# EAGLE library part STM32F411CEU7 (library tecsmith_stm32)
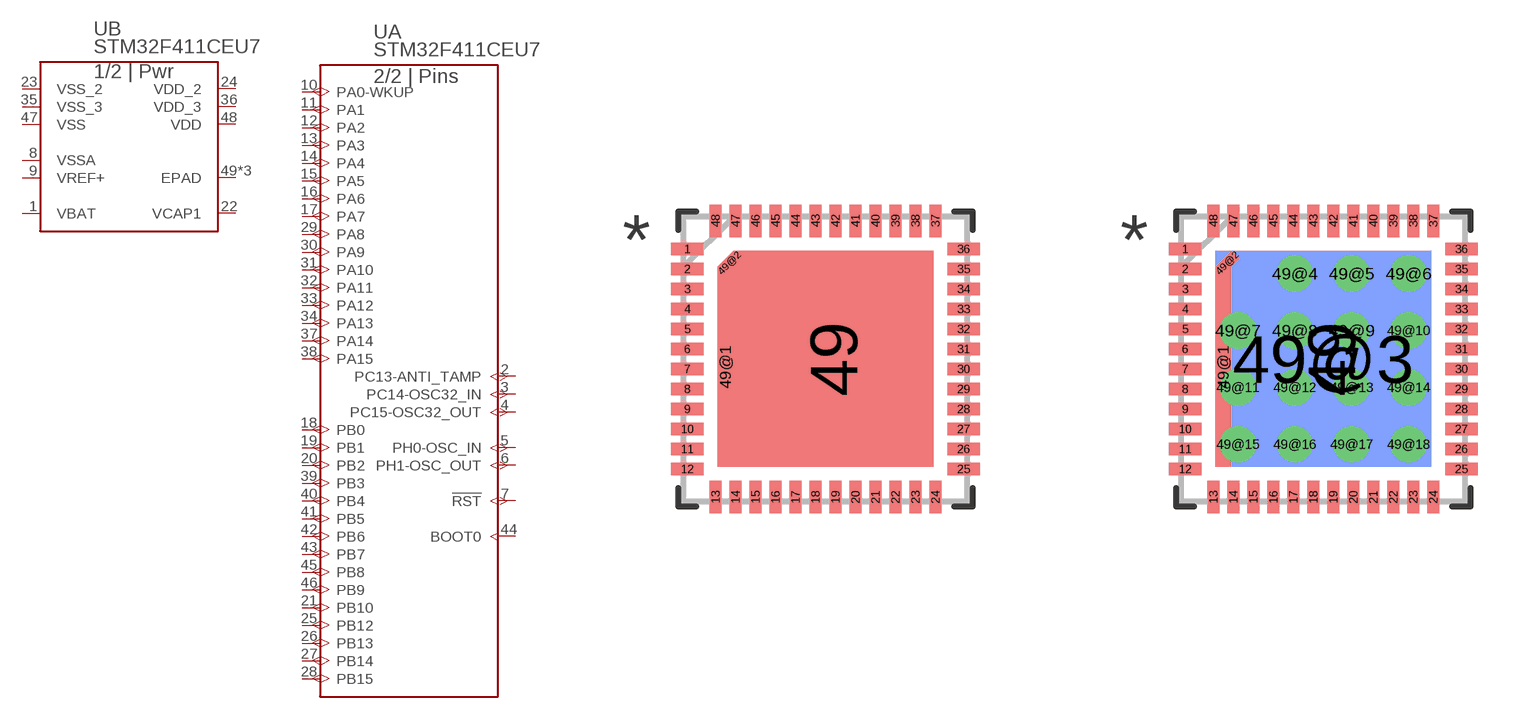
[diagram p1: symbol with the pads of UFQFPN-48; footprints UFQFPN-48, UFQFPN-48-THERM]

Designator prefix U; gates A=STM32F4XXC3_1 B=STM32F4XXC3

## STM32F411CEU7 (MANUFACTURER_PART_NUMBER: STM32F411CEU7; MFR_NAME: STMicroelectronics)  [UFQFPN-48]
1  B:VBAT  pwr
2  A:PC13-ANTI_TAMP
3  A:PC14-OSC32_IN
4  A:PC15-OSC32_OUT
5  A:PH0-OSC_IN
6  A:PH1-OSC_OUT
7  A:!RST
8  B:VSSA  pwr
9  B:VREF+  pwr
10  A:PA0-WKUP
11  A:PA1
12  A:PA2
13  A:PA3
14  A:PA4
15  A:PA5
16  A:PA6
17  A:PA7
18  A:PB0
19  A:PB1
20  A:PB2
21  A:PB10
22  B:VCAP1  pwr
23  B:VSS_2  pwr
24  B:VDD_2  pwr
25  A:PB12
26  A:PB13
27  A:PB14
28  A:PB15
29  A:PA8
30  A:PA9
31  A:PA10
32  A:PA11
33  A:PA12
34  A:PA13
35  B:VSS_3  pwr
36  B:VDD_3  pwr
37  A:PA14
38  A:PA15
39  A:PB3
40  A:PB4
41  A:PB5
42  A:PB6
43  A:PB7
44  A:BOOT0  in
45  A:PB8
46  A:PB9
47  B:VSS  pwr
48  B:VDD  pwr
49  B:EPAD  pas
49@1  B:EPAD  pas
49@2  B:EPAD  pas

## STM32F411CEU7THERM  [UFQFPN-48-THERM]
1  B:VBAT  pwr
2  A:PC13-ANTI_TAMP
3  A:PC14-OSC32_IN
4  A:PC15-OSC32_OUT
5  A:PH0-OSC_IN
6  A:PH1-OSC_OUT
7  A:!RST
8  B:VSSA  pwr
9  B:VREF+  pwr
10  A:PA0-WKUP
11  A:PA1
12  A:PA2
13  A:PA3
14  A:PA4
15  A:PA5
16  A:PA6
17  A:PA7
18  A:PB0
19  A:PB1
20  A:PB2
21  A:PB10
22  B:VCAP1  pwr
23  B:VSS_2  pwr
24  B:VDD_2  pwr
25  A:PB12
26  A:PB13
27  A:PB14
28  A:PB15
29  A:PA8
30  A:PA9
31  A:PA10
32  A:PA11
33  A:PA12
34  A:PA13
35  B:VSS_3  pwr
36  B:VDD_3  pwr
37  A:PA14
38  A:PA15
39  A:PB3
40  A:PB4
41  A:PB5
42  A:PB6
43  A:PB7
44  A:BOOT0  in
45  A:PB8
46  A:PB9
47  B:VSS  pwr
48  B:VDD  pwr
49  B:EPAD  pas
49@1  B:EPAD  pas
49@2  B:EPAD  pas
49@3  B:EPAD  pas
49@4  B:EPAD  pas
49@5  B:EPAD  pas
49@6  B:EPAD  pas
49@7  B:EPAD  pas
49@8  B:EPAD  pas
49@9  B:EPAD  pas
49@10  B:EPAD  pas
49@11  B:EPAD  pas
49@12  B:EPAD  pas
49@13  B:EPAD  pas
49@14  B:EPAD  pas
49@15  B:EPAD  pas
49@16  B:EPAD  pas
49@17  B:EPAD  pas
49@18  B:EPAD  pas

## Footprint UFQFPN-48 (pad centres in mm)
smd 0.813 x 0.305: 1 -3.454,2.75; 2 -3.454,2.25; 3 -3.454,1.75; 4 -3.454,1.25; 5 -3.454,0.75; 6 -3.454,0.25; 7 -3.454,-0.25; 8 -3.454,-0.75; 9 -3.454,-1.25; 10 -3.454,-1.75; 11 -3.454,-2.25; 12 -3.454,-2.75; 25 3.454,-2.75; 26 3.454,-2.25; 27 3.454,-1.75; 28 3.454,-1.25; 29 3.454,-0.75; 30 3.454,-0.25; 31 3.454,0.25; 32 3.454,0.75; 33 3.454,1.25; 34 3.454,1.75; 35 3.454,2.25; 36 3.454,2.75
smd 0.305 x 0.813: 13 -2.75,-3.454; 14 -2.25,-3.454; 15 -1.75,-3.454; 16 -1.25,-3.454; 17 -0.75,-3.454; 18 -0.25,-3.454; 19 0.25,-3.454; 20 0.75,-3.454; 21 1.25,-3.454; 22 1.75,-3.454; 23 2.25,-3.454; 24 2.75,-3.454; 37 2.75,3.454; 38 2.25,3.454; 39 1.75,3.454; 40 1.25,3.454; 41 0.75,3.454; 42 0.25,3.454; 43 -0.25,3.454; 44 -0.75,3.454; 45 -1.25,3.454; 46 -1.75,3.454; 47 -2.25,3.454; 48 -2.75,3.454
smd 5 x 5.4: 49 0.2,0
smd 0.4 x 5: 49@1 -2.5,-0.2
smd 0.56 x 0.29 rotated 45: 49@2 -2.4,2.4

## Footprint UFQFPN-48-THERM (pad centres in mm)
smd 0.813 x 0.305: 1 -3.454,2.75; 2 -3.454,2.25; 3 -3.454,1.75; 4 -3.454,1.25; 5 -3.454,0.75; 6 -3.454,0.25; 7 -3.454,-0.25; 8 -3.454,-0.75; 9 -3.454,-1.25; 10 -3.454,-1.75; 11 -3.454,-2.25; 12 -3.454,-2.75; 25 3.454,-2.75; 26 3.454,-2.25; 27 3.454,-1.75; 28 3.454,-1.25; 29 3.454,-0.75; 30 3.454,-0.25; 31 3.454,0.25; 32 3.454,0.75; 33 3.454,1.25; 34 3.454,1.75; 35 3.454,2.25; 36 3.454,2.75
smd 0.305 x 0.813: 13 -2.75,-3.454; 14 -2.25,-3.454; 15 -1.75,-3.454; 16 -1.25,-3.454; 17 -0.75,-3.454; 18 -0.25,-3.454; 19 0.25,-3.454; 20 0.75,-3.454; 21 1.25,-3.454; 22 1.75,-3.454; 23 2.25,-3.454; 24 2.75,-3.454; 37 2.75,3.454; 38 2.25,3.454; 39 1.75,3.454; 40 1.25,3.454; 41 0.75,3.454; 42 0.25,3.454; 43 -0.25,3.454; 44 -0.75,3.454; 45 -1.25,3.454; 46 -1.75,3.454; 47 -2.25,3.454; 48 -2.75,3.454
smd 5 x 5.4: 49 0.2,0
smd 0.4 x 5: 49@1 -2.5,-0.2
smd 0.56 x 0.29 rotated 45: 49@2 -2.4,2.4
smd 5.4 x 5.4 bottom: 49@3 0,0
drill 0.4: 49@4 -0.711,2.134; 49@5 0.711,2.134; 49@6 2.134,2.134; 49@7 -2.134,0.711; 49@8 -0.711,0.711; 49@9 0.711,0.711; 49@10 2.134,0.711; 49@11 -2.134,-0.711; 49@12 -0.711,-0.711; 49@13 0.711,-0.711; 49@14 2.134,-0.711; 49@15 -2.134,-2.134; 49@16 -0.711,-2.134; 49@17 0.711,-2.134; 49@18 2.134,-2.134